# Altium schematic symbol library Microchip Power Management Switching Regulator.SchLib: 304 symbols (part 6 of 8)
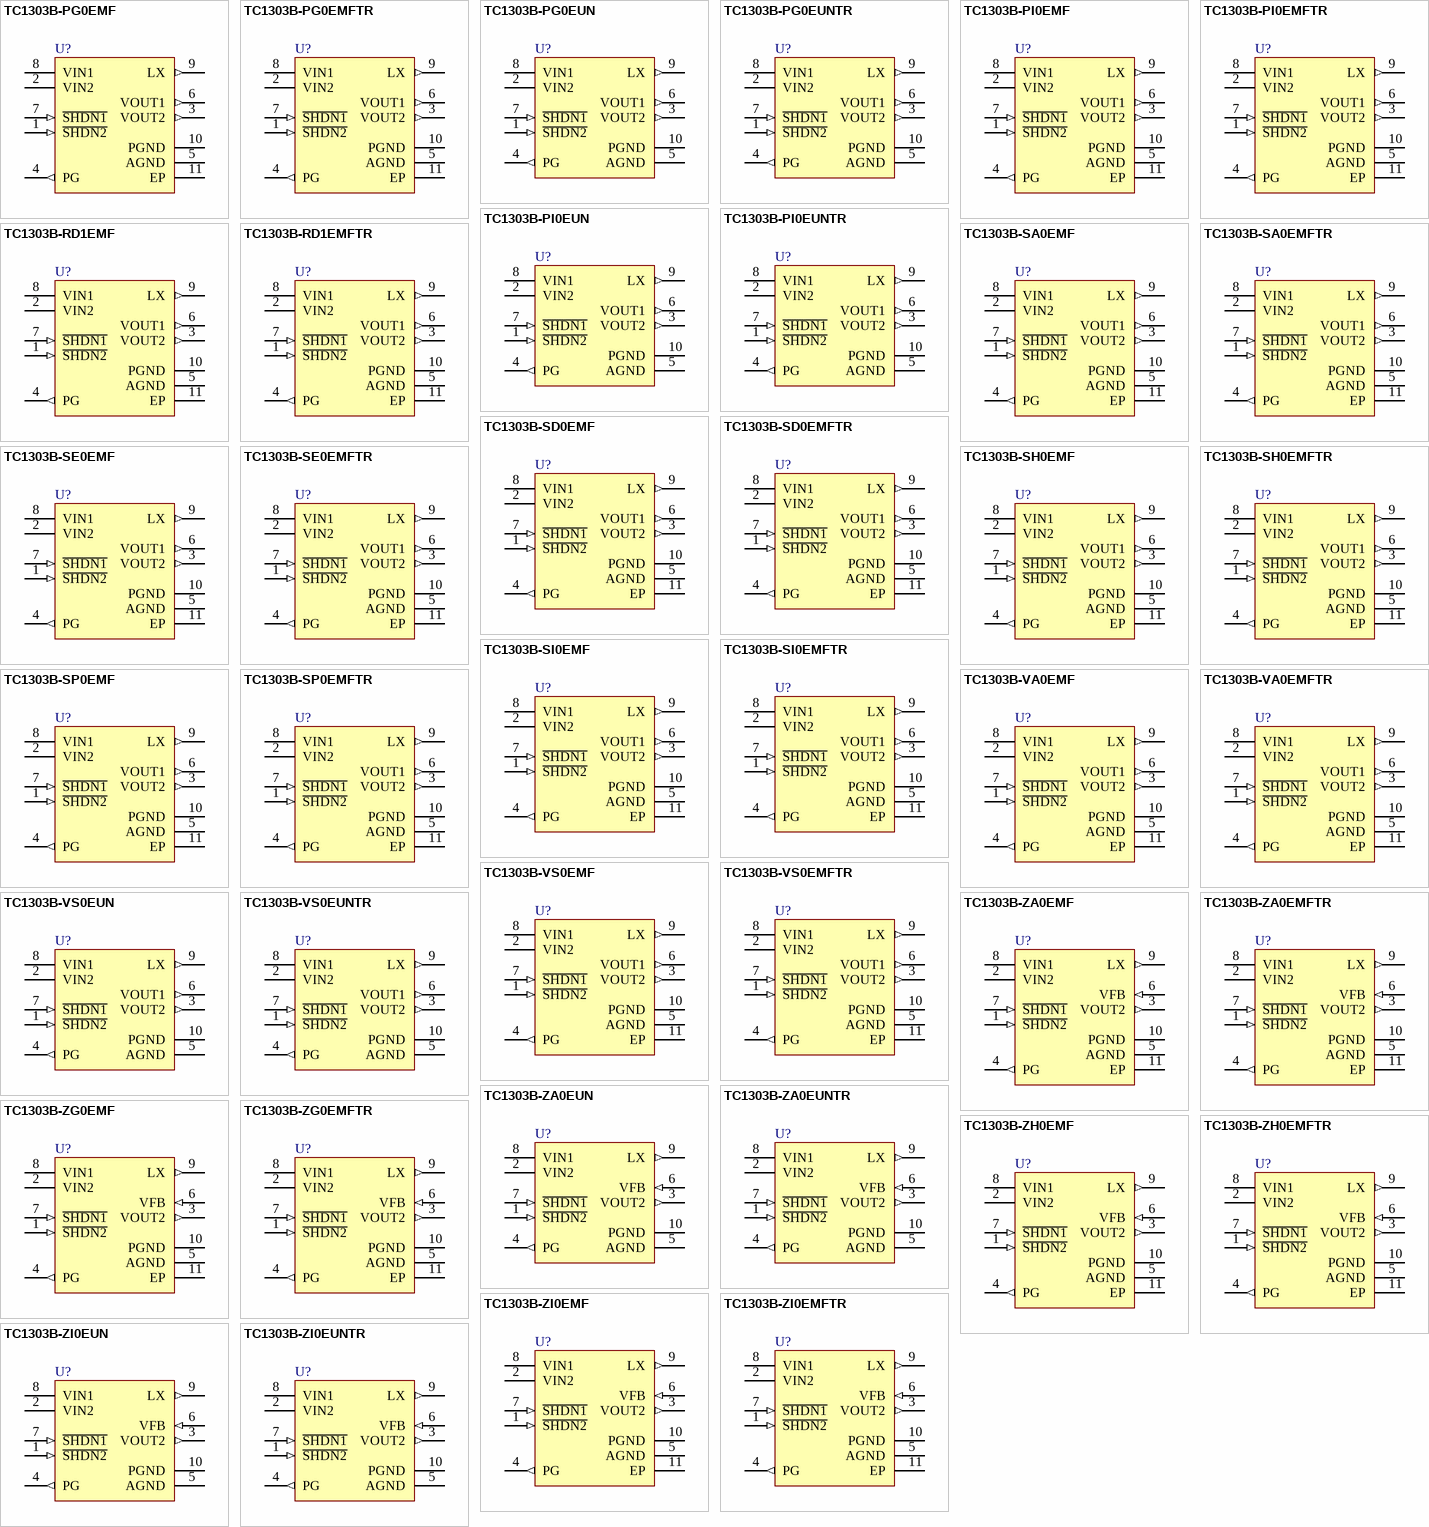
[diagram p12: symbols TC1303B-PG0EMF to TC1303B-ZI0EUNTR]

## TC1303B-VS0EMFTR
designator U?
500mA Synchronous Buck Regulator + 300mA LDO with Power-Good Output, 1.2V, 1.5V, 10-Pin DFN, Industrial Temperature, Tape and Reel; Manufacturer: Microchip; PartNumber: TC1303B-VS0EMFTR; DatasheetVersion: revB, Jul-2005; PackageVersion: revBB, Aug-2009; PackageReference: DFN-MF10; PackageDescription: 10-Lead Plastic Dual Flat, No Lead Package (MF) - 3x3x0.9mm Body [DFN]; Supplier 1: Digi-Key; Supplier Part Number 1: TC1303B-VS0EMFTR-ND; Mounting Technology: Surface Mount; ComponentLink1Description: Manufacturer URL; ComponentLink1URL: http://www.microchip.com/; ComponentLink2Description: Datasheet; ComponentLink2URL: http://ww1.microchip.com/downloads/en/DeviceDoc/21949b.pdf; ComponentLink3Description: Package Specification; ComponentLink3URL: http://www.microchip.com/stellent/groups/techpub_sg/documents/packagingspec/en012702.pdf
footprint DFN-MF10 (SON, 10-Leads, Body 3x3mm, Pitch 0.5mm, Microchip Recommended)
pins: 1 ~{SHDN2} (in), 2 VIN2 (power), 3 VOUT2 (out), 4 PG (out), 5 AGND (power), 6 VOUT1 (out), 7 ~{SHDN1} (in), 8 VIN1 (power), 9 LX (out), 10 PGND (power), 11 EP (power)

## TC1303B-VS0EUN
designator U?
500mA Synchronous Buck Regulator + 300mA LDO with Power-Good Output, 1.2V, 1.5V, 10-Pin MSOP, Industrial Temperature; Manufacturer: Microchip; PartNumber: TC1303B-VS0EUN; DatasheetVersion: revB, Jul-2005; PackageVersion: revBB, Aug-2009; PackageReference: MSOP-UN10; PackageDescription: 10-Lead Plastic Micro Small Outline Package (UN) [MSOP]; Supplier 1: Digi-Key; Supplier Part Number 1: TC1303B-VS0EUN-ND; Mounting Technology: Surface Mount; ComponentLink1Description: Manufacturer URL; ComponentLink1URL: http://www.microchip.com/; ComponentLink2Description: Datasheet; ComponentLink2URL: http://ww1.microchip.com/downloads/en/DeviceDoc/21949b.pdf; ComponentLink3Description: Package Specification; ComponentLink3URL: http://www.microchip.com/stellent/groups/techpub_sg/documents/packagingspec/en012702.pdf
footprint MSOP-UN10_N (TSSOP, 10-Leads, Body 3x3mm, Pitch 0.5mm, IPC Medium Density)
footprint MSOP-UN10_L (TSSOP, 10-Leads, Body 3x3mm, Pitch 0.5mm, IPC High Density)
footprint MSOP-UN10_M (TSSOP, 10-Leads, Body 3x3mm, Pitch 0.5mm, IPC Low Density)
pins: 1 ~{SHDN2} (in), 2 VIN2 (power), 3 VOUT2 (out), 4 PG (out), 5 AGND (power), 6 VOUT1 (out), 7 ~{SHDN1} (in), 8 VIN1 (power), 9 LX (out), 10 PGND (power)

## TC1303B-VS0EUNTR
designator U?
500mA Synchronous Buck Regulator + 300mA LDO with Power-Good Output, 1.2V, 1.5V, 10-Pin MSOP, Industrial Temperature, Tape and Reel; Manufacturer: Microchip; PartNumber: TC1303B-VS0EUNTR; DatasheetVersion: revB, Jul-2005; PackageVersion: revBB, Aug-2009; PackageReference: MSOP-UN10; PackageDescription: 10-Lead Plastic Micro Small Outline Package (UN) [MSOP]; Supplier 1: Digi-Key; Supplier Part Number 1: TC1303B-VS0EUNTR-ND; Mounting Technology: Surface Mount; ComponentLink1Description: Manufacturer URL; ComponentLink1URL: http://www.microchip.com/; ComponentLink2Description: Datasheet; ComponentLink2URL: http://ww1.microchip.com/downloads/en/DeviceDoc/21949b.pdf; ComponentLink3Description: Package Specification; ComponentLink3URL: http://www.microchip.com/stellent/groups/techpub_sg/documents/packagingspec/en012702.pdf
footprint MSOP-UN10_N (TSSOP, 10-Leads, Body 3x3mm, Pitch 0.5mm, IPC Medium Density)
footprint MSOP-UN10_L (TSSOP, 10-Leads, Body 3x3mm, Pitch 0.5mm, IPC High Density)
footprint MSOP-UN10_M (TSSOP, 10-Leads, Body 3x3mm, Pitch 0.5mm, IPC Low Density)
pins: 1 ~{SHDN2} (in), 2 VIN2 (power), 3 VOUT2 (out), 4 PG (out), 5 AGND (power), 6 VOUT1 (out), 7 ~{SHDN1} (in), 8 VIN1 (power), 9 LX (out), 10 PGND (power)

## TC1303B-ZA0EMF
designator U?
500mA Synchronous Buck Regulator + 300mA LDO with Power-Good Output, Adjustable, 3.3V, 10-Pin DFN, Industrial Temperature; Manufacturer: Microchip; PartNumber: TC1303B-ZA0EMF; DatasheetVersion: revB, Jul-2005; PackageVersion: revBB, Aug-2009; PackageReference: DFN-MF10; PackageDescription: 10-Lead Plastic Dual Flat, No Lead Package (MF) - 3x3x0.9mm Body [DFN]; Supplier 1: Digi-Key; Supplier Part Number 1: TC1303B-ZA0EMF-ND; Mounting Technology: Surface Mount; ComponentLink1Description: Manufacturer URL; ComponentLink1URL: http://www.microchip.com/; ComponentLink2Description: Datasheet; ComponentLink2URL: http://ww1.microchip.com/downloads/en/DeviceDoc/21949b.pdf; ComponentLink3Description: Package Specification; ComponentLink3URL: http://www.microchip.com/stellent/groups/techpub_sg/documents/packagingspec/en012702.pdf
footprint DFN-MF10 (SON, 10-Leads, Body 3x3mm, Pitch 0.5mm, Microchip Recommended)
pins: 1 ~{SHDN2} (in), 2 VIN2 (power), 3 VOUT2 (out), 4 PG (out), 5 AGND (power), 6 VFB (in), 7 ~{SHDN1} (in), 8 VIN1 (power), 9 LX (out), 10 PGND (power), 11 EP (power)

## TC1303B-ZA0EMFTR
designator U?
500mA Synchronous Buck Regulator + 300mA LDO with Power-Good Output, Adjustable, 3.3V, 10-Pin DFN, Industrial Temperature, Tape and Reel; Manufacturer: Microchip; PartNumber: TC1303B-ZA0EMFTR; DatasheetVersion: revB, Jul-2005; PackageVersion: revBB, Aug-2009; PackageReference: DFN-MF10; PackageDescription: 10-Lead Plastic Dual Flat, No Lead Package (MF) - 3x3x0.9mm Body [DFN]; Supplier 1: Digi-Key; Supplier Part Number 1: TC1303B-ZA0EMFTR-ND; Mounting Technology: Surface Mount; ComponentLink1Description: Manufacturer URL; ComponentLink1URL: http://www.microchip.com/; ComponentLink2Description: Datasheet; ComponentLink2URL: http://ww1.microchip.com/downloads/en/DeviceDoc/21949b.pdf; ComponentLink3Description: Package Specification; ComponentLink3URL: http://www.microchip.com/stellent/groups/techpub_sg/documents/packagingspec/en012702.pdf
footprint DFN-MF10 (SON, 10-Leads, Body 3x3mm, Pitch 0.5mm, Microchip Recommended)
pins: 1 ~{SHDN2} (in), 2 VIN2 (power), 3 VOUT2 (out), 4 PG (out), 5 AGND (power), 6 VFB (in), 7 ~{SHDN1} (in), 8 VIN1 (power), 9 LX (out), 10 PGND (power), 11 EP (power)

## TC1303B-ZA0EUN
designator U?
500mA Synchronous Buck Regulator + 300mA LDO with Power-Good Output, Adjustable, 3.3V, 10-Pin MSOP, Industrial Temperature; Manufacturer: Microchip; PartNumber: TC1303B-ZA0EUN; DatasheetVersion: revB, Jul-2005; PackageVersion: revBB, Aug-2009; PackageReference: MSOP-UN10; PackageDescription: 10-Lead Plastic Micro Small Outline Package (UN) [MSOP]; Supplier 1: Digi-Key; Supplier Part Number 1: TC1303B-ZA0EUN-ND; Mounting Technology: Surface Mount; ComponentLink1Description: Manufacturer URL; ComponentLink1URL: http://www.microchip.com/; ComponentLink2Description: Datasheet; ComponentLink2URL: http://ww1.microchip.com/downloads/en/DeviceDoc/21949b.pdf; ComponentLink3Description: Package Specification; ComponentLink3URL: http://www.microchip.com/stellent/groups/techpub_sg/documents/packagingspec/en012702.pdf
footprint MSOP-UN10_N (TSSOP, 10-Leads, Body 3x3mm, Pitch 0.5mm, IPC Medium Density)
footprint MSOP-UN10_L (TSSOP, 10-Leads, Body 3x3mm, Pitch 0.5mm, IPC High Density)
footprint MSOP-UN10_M (TSSOP, 10-Leads, Body 3x3mm, Pitch 0.5mm, IPC Low Density)
pins: 1 ~{SHDN2} (in), 2 VIN2 (power), 3 VOUT2 (out), 4 PG (out), 5 AGND (power), 6 VFB (in), 7 ~{SHDN1} (in), 8 VIN1 (power), 9 LX (out), 10 PGND (power)

## TC1303B-ZA0EUNTR
designator U?
500mA Synchronous Buck Regulator + 300mA LDO with Power-Good Output, Adjustable, 3.3V, 10-Pin MSOP, Industrial Temperature, Tape and Reel; Manufacturer: Microchip; PartNumber: TC1303B-ZA0EUNTR; DatasheetVersion: revB, Jul-2005; PackageVersion: revBB, Aug-2009; PackageReference: MSOP-UN10; PackageDescription: 10-Lead Plastic Micro Small Outline Package (UN) [MSOP]; Supplier 1: Digi-Key; Supplier Part Number 1: TC1303B-ZA0EUNTR-ND; Mounting Technology: Surface Mount; ComponentLink1Description: Manufacturer URL; ComponentLink1URL: http://www.microchip.com/; ComponentLink2Description: Datasheet; ComponentLink2URL: http://ww1.microchip.com/downloads/en/DeviceDoc/21949b.pdf; ComponentLink3Description: Package Specification; ComponentLink3URL: http://www.microchip.com/stellent/groups/techpub_sg/documents/packagingspec/en012702.pdf
footprint MSOP-UN10_N (TSSOP, 10-Leads, Body 3x3mm, Pitch 0.5mm, IPC Medium Density)
footprint MSOP-UN10_L (TSSOP, 10-Leads, Body 3x3mm, Pitch 0.5mm, IPC High Density)
footprint MSOP-UN10_M (TSSOP, 10-Leads, Body 3x3mm, Pitch 0.5mm, IPC Low Density)
pins: 1 ~{SHDN2} (in), 2 VIN2 (power), 3 VOUT2 (out), 4 PG (out), 5 AGND (power), 6 VFB (in), 7 ~{SHDN1} (in), 8 VIN1 (power), 9 LX (out), 10 PGND (power)

## TC1303B-ZG0EMF
designator U?
500mA Synchronous Buck Regulator + 300mA LDO with Power-Good Output, Adjustable, 2.7V, 10-Pin DFN, Industrial Temperature; Manufacturer: Microchip; PartNumber: TC1303B-ZG0EMF; DatasheetVersion: revB, Jul-2005; PackageVersion: revBB, Aug-2009; PackageReference: DFN-MF10; PackageDescription: 10-Lead Plastic Dual Flat, No Lead Package (MF) - 3x3x0.9mm Body [DFN]; Supplier 1: Digi-Key; Supplier Part Number 1: TC1303B-ZG0EMF-ND; Mounting Technology: Surface Mount; ComponentLink1Description: Manufacturer URL; ComponentLink1URL: http://www.microchip.com/; ComponentLink2Description: Datasheet; ComponentLink2URL: http://ww1.microchip.com/downloads/en/DeviceDoc/21949b.pdf; ComponentLink3Description: Package Specification; ComponentLink3URL: http://www.microchip.com/stellent/groups/techpub_sg/documents/packagingspec/en012702.pdf
footprint DFN-MF10 (SON, 10-Leads, Body 3x3mm, Pitch 0.5mm, Microchip Recommended)
pins: 1 ~{SHDN2} (in), 2 VIN2 (power), 3 VOUT2 (out), 4 PG (out), 5 AGND (power), 6 VFB (in), 7 ~{SHDN1} (in), 8 VIN1 (power), 9 LX (out), 10 PGND (power), 11 EP (power)

## TC1303B-ZG0EMFTR
designator U?
500mA Synchronous Buck Regulator + 300mA LDO with Power-Good Output, Adjustable, 2.7V, 10-Pin DFN, Industrial Temperature, Tape and Reel; Manufacturer: Microchip; PartNumber: TC1303B-ZG0EMFTR; DatasheetVersion: revB, Jul-2005; PackageVersion: revBB, Aug-2009; PackageReference: DFN-MF10; PackageDescription: 10-Lead Plastic Dual Flat, No Lead Package (MF) - 3x3x0.9mm Body [DFN]; Supplier 1: Digi-Key; Supplier Part Number 1: TC1303B-ZG0EMFTR-ND; Mounting Technology: Surface Mount; ComponentLink1Description: Manufacturer URL; ComponentLink1URL: http://www.microchip.com/; ComponentLink2Description: Datasheet; ComponentLink2URL: http://ww1.microchip.com/downloads/en/DeviceDoc/21949b.pdf; ComponentLink3Description: Package Specification; ComponentLink3URL: http://www.microchip.com/stellent/groups/techpub_sg/documents/packagingspec/en012702.pdf
footprint DFN-MF10 (SON, 10-Leads, Body 3x3mm, Pitch 0.5mm, Microchip Recommended)
pins: 1 ~{SHDN2} (in), 2 VIN2 (power), 3 VOUT2 (out), 4 PG (out), 5 AGND (power), 6 VFB (in), 7 ~{SHDN1} (in), 8 VIN1 (power), 9 LX (out), 10 PGND (power), 11 EP (power)

## TC1303B-ZH0EMF
designator U?
500mA Synchronous Buck Regulator + 300mA LDO with Power-Good Output, Adjustable, 2.6V, 10-Pin DFN, Industrial Temperature; Manufacturer: Microchip; PartNumber: TC1303B-ZH0EMF; DatasheetVersion: revB, Jul-2005; PackageVersion: revBB, Aug-2009; PackageReference: DFN-MF10; PackageDescription: 10-Lead Plastic Dual Flat, No Lead Package (MF) - 3x3x0.9mm Body [DFN]; Supplier 1: Digi-Key; Supplier Part Number 1: TC1303B-ZH0EMF-ND; Mounting Technology: Surface Mount; ComponentLink1Description: Manufacturer URL; ComponentLink1URL: http://www.microchip.com/; ComponentLink2Description: Datasheet; ComponentLink2URL: http://ww1.microchip.com/downloads/en/DeviceDoc/21949b.pdf; ComponentLink3Description: Package Specification; ComponentLink3URL: http://www.microchip.com/stellent/groups/techpub_sg/documents/packagingspec/en012702.pdf
footprint DFN-MF10 (SON, 10-Leads, Body 3x3mm, Pitch 0.5mm, Microchip Recommended)
pins: 1 ~{SHDN2} (in), 2 VIN2 (power), 3 VOUT2 (out), 4 PG (out), 5 AGND (power), 6 VFB (in), 7 ~{SHDN1} (in), 8 VIN1 (power), 9 LX (out), 10 PGND (power), 11 EP (power)

## TC1303B-ZH0EMFTR
designator U?
500mA Synchronous Buck Regulator + 300mA LDO with Power-Good Output, Adjustable, 2.6V, 10-Pin DFN, Industrial Temperature, Tape and Reel; Manufacturer: Microchip; PartNumber: TC1303B-ZH0EMFTR; DatasheetVersion: revB, Jul-2005; PackageVersion: revBB, Aug-2009; PackageReference: DFN-MF10; PackageDescription: 10-Lead Plastic Dual Flat, No Lead Package (MF) - 3x3x0.9mm Body [DFN]; Supplier 1: Digi-Key; Supplier Part Number 1: TC1303B-ZH0EMFTR-ND; Mounting Technology: Surface Mount; ComponentLink1Description: Manufacturer URL; ComponentLink1URL: http://www.microchip.com/; ComponentLink2Description: Datasheet; ComponentLink2URL: http://ww1.microchip.com/downloads/en/DeviceDoc/21949b.pdf; ComponentLink3Description: Package Specification; ComponentLink3URL: http://www.microchip.com/stellent/groups/techpub_sg/documents/packagingspec/en012702.pdf
footprint DFN-MF10 (SON, 10-Leads, Body 3x3mm, Pitch 0.5mm, Microchip Recommended)
pins: 1 ~{SHDN2} (in), 2 VIN2 (power), 3 VOUT2 (out), 4 PG (out), 5 AGND (power), 6 VFB (in), 7 ~{SHDN1} (in), 8 VIN1 (power), 9 LX (out), 10 PGND (power), 11 EP (power)

## TC1303B-ZI0EMF
designator U?
500mA Synchronous Buck Regulator + 300mA LDO with Power-Good Output, Adjustable, 2.5V, 10-Pin DFN, Industrial Temperature; Manufacturer: Microchip; PartNumber: TC1303B-ZI0EMF; DatasheetVersion: revB, Jul-2005; PackageVersion: revBB, Aug-2009; PackageReference: DFN-MF10; PackageDescription: 10-Lead Plastic Dual Flat, No Lead Package (MF) - 3x3x0.9mm Body [DFN]; Supplier 1: Digi-Key; Supplier Part Number 1: TC1303B-ZI0EMF-ND; Mounting Technology: Surface Mount; ComponentLink1Description: Manufacturer URL; ComponentLink1URL: http://www.microchip.com/; ComponentLink2Description: Datasheet; ComponentLink2URL: http://ww1.microchip.com/downloads/en/DeviceDoc/21949b.pdf; ComponentLink3Description: Package Specification; ComponentLink3URL: http://www.microchip.com/stellent/groups/techpub_sg/documents/packagingspec/en012702.pdf
footprint DFN-MF10 (SON, 10-Leads, Body 3x3mm, Pitch 0.5mm, Microchip Recommended)
pins: 1 ~{SHDN2} (in), 2 VIN2 (power), 3 VOUT2 (out), 4 PG (out), 5 AGND (power), 6 VFB (in), 7 ~{SHDN1} (in), 8 VIN1 (power), 9 LX (out), 10 PGND (power), 11 EP (power)

## TC1303B-ZI0EMFTR
designator U?
500mA Synchronous Buck Regulator + 300mA LDO with Power-Good Output, Adjustable, 2.5V, 10-Pin DFN, Industrial Temperature, Tape and Reel; Manufacturer: Microchip; PartNumber: TC1303B-ZI0EMFTR; DatasheetVersion: revB, Jul-2005; PackageVersion: revBB, Aug-2009; PackageReference: DFN-MF10; PackageDescription: 10-Lead Plastic Dual Flat, No Lead Package (MF) - 3x3x0.9mm Body [DFN]; Supplier 1: Digi-Key; Supplier Part Number 1: TC1303B-ZI0EMFTR-ND; Mounting Technology: Surface Mount; ComponentLink1Description: Manufacturer URL; ComponentLink1URL: http://www.microchip.com/; ComponentLink2Description: Datasheet; ComponentLink2URL: http://ww1.microchip.com/downloads/en/DeviceDoc/21949b.pdf; ComponentLink3Description: Package Specification; ComponentLink3URL: http://www.microchip.com/stellent/groups/techpub_sg/documents/packagingspec/en012702.pdf
footprint DFN-MF10 (SON, 10-Leads, Body 3x3mm, Pitch 0.5mm, Microchip Recommended)
pins: 1 ~{SHDN2} (in), 2 VIN2 (power), 3 VOUT2 (out), 4 PG (out), 5 AGND (power), 6 VFB (in), 7 ~{SHDN1} (in), 8 VIN1 (power), 9 LX (out), 10 PGND (power), 11 EP (power)

## TC1303B-ZI0EUN
designator U?
500mA Synchronous Buck Regulator + 300mA LDO with Power-Good Output, Adjustable, 2.5V, 10-Pin MSOP, Industrial Temperature; Manufacturer: Microchip; PartNumber: TC1303B-ZI0EUN; DatasheetVersion: revB, Jul-2005; PackageVersion: revBB, Aug-2009; PackageReference: MSOP-UN10; PackageDescription: 10-Lead Plastic Micro Small Outline Package (UN) [MSOP]; Supplier 1: Digi-Key; Supplier Part Number 1: TC1303B-ZI0EUN-ND; Mounting Technology: Surface Mount; ComponentLink1Description: Manufacturer URL; ComponentLink1URL: http://www.microchip.com/; ComponentLink2Description: Datasheet; ComponentLink2URL: http://ww1.microchip.com/downloads/en/DeviceDoc/21949b.pdf; ComponentLink3Description: Package Specification; ComponentLink3URL: http://www.microchip.com/stellent/groups/techpub_sg/documents/packagingspec/en012702.pdf
footprint MSOP-UN10_N (TSSOP, 10-Leads, Body 3x3mm, Pitch 0.5mm, IPC Medium Density)
footprint MSOP-UN10_L (TSSOP, 10-Leads, Body 3x3mm, Pitch 0.5mm, IPC High Density)
footprint MSOP-UN10_M (TSSOP, 10-Leads, Body 3x3mm, Pitch 0.5mm, IPC Low Density)
pins: 1 ~{SHDN2} (in), 2 VIN2 (power), 3 VOUT2 (out), 4 PG (out), 5 AGND (power), 6 VFB (in), 7 ~{SHDN1} (in), 8 VIN1 (power), 9 LX (out), 10 PGND (power)

## TC1303B-ZI0EUNTR
designator U?
500mA Synchronous Buck Regulator + 300mA LDO with Power-Good Output, Adjustable, 2.5V, 10-Pin MSOP, Industrial Temperature, Tape and Reel; Manufacturer: Microchip; PartNumber: TC1303B-ZI0EUNTR; DatasheetVersion: revB, Jul-2005; PackageVersion: revBB, Aug-2009; PackageReference: MSOP-UN10; PackageDescription: 10-Lead Plastic Micro Small Outline Package (UN) [MSOP]; Supplier 1: Digi-Key; Supplier Part Number 1: TC1303B-ZI0EUNTR-ND; Mounting Technology: Surface Mount; ComponentLink1Description: Manufacturer URL; ComponentLink1URL: http://www.microchip.com/; ComponentLink2Description: Datasheet; ComponentLink2URL: http://ww1.microchip.com/downloads/en/DeviceDoc/21949b.pdf; ComponentLink3Description: Package Specification; ComponentLink3URL: http://www.microchip.com/stellent/groups/techpub_sg/documents/packagingspec/en012702.pdf
footprint MSOP-UN10_N (TSSOP, 10-Leads, Body 3x3mm, Pitch 0.5mm, IPC Medium Density)
footprint MSOP-UN10_L (TSSOP, 10-Leads, Body 3x3mm, Pitch 0.5mm, IPC High Density)
footprint MSOP-UN10_M (TSSOP, 10-Leads, Body 3x3mm, Pitch 0.5mm, IPC Low Density)
pins: 1 ~{SHDN2} (in), 2 VIN2 (power), 3 VOUT2 (out), 4 PG (out), 5 AGND (power), 6 VFB (in), 7 ~{SHDN1} (in), 8 VIN1 (power), 9 LX (out), 10 PGND (power)

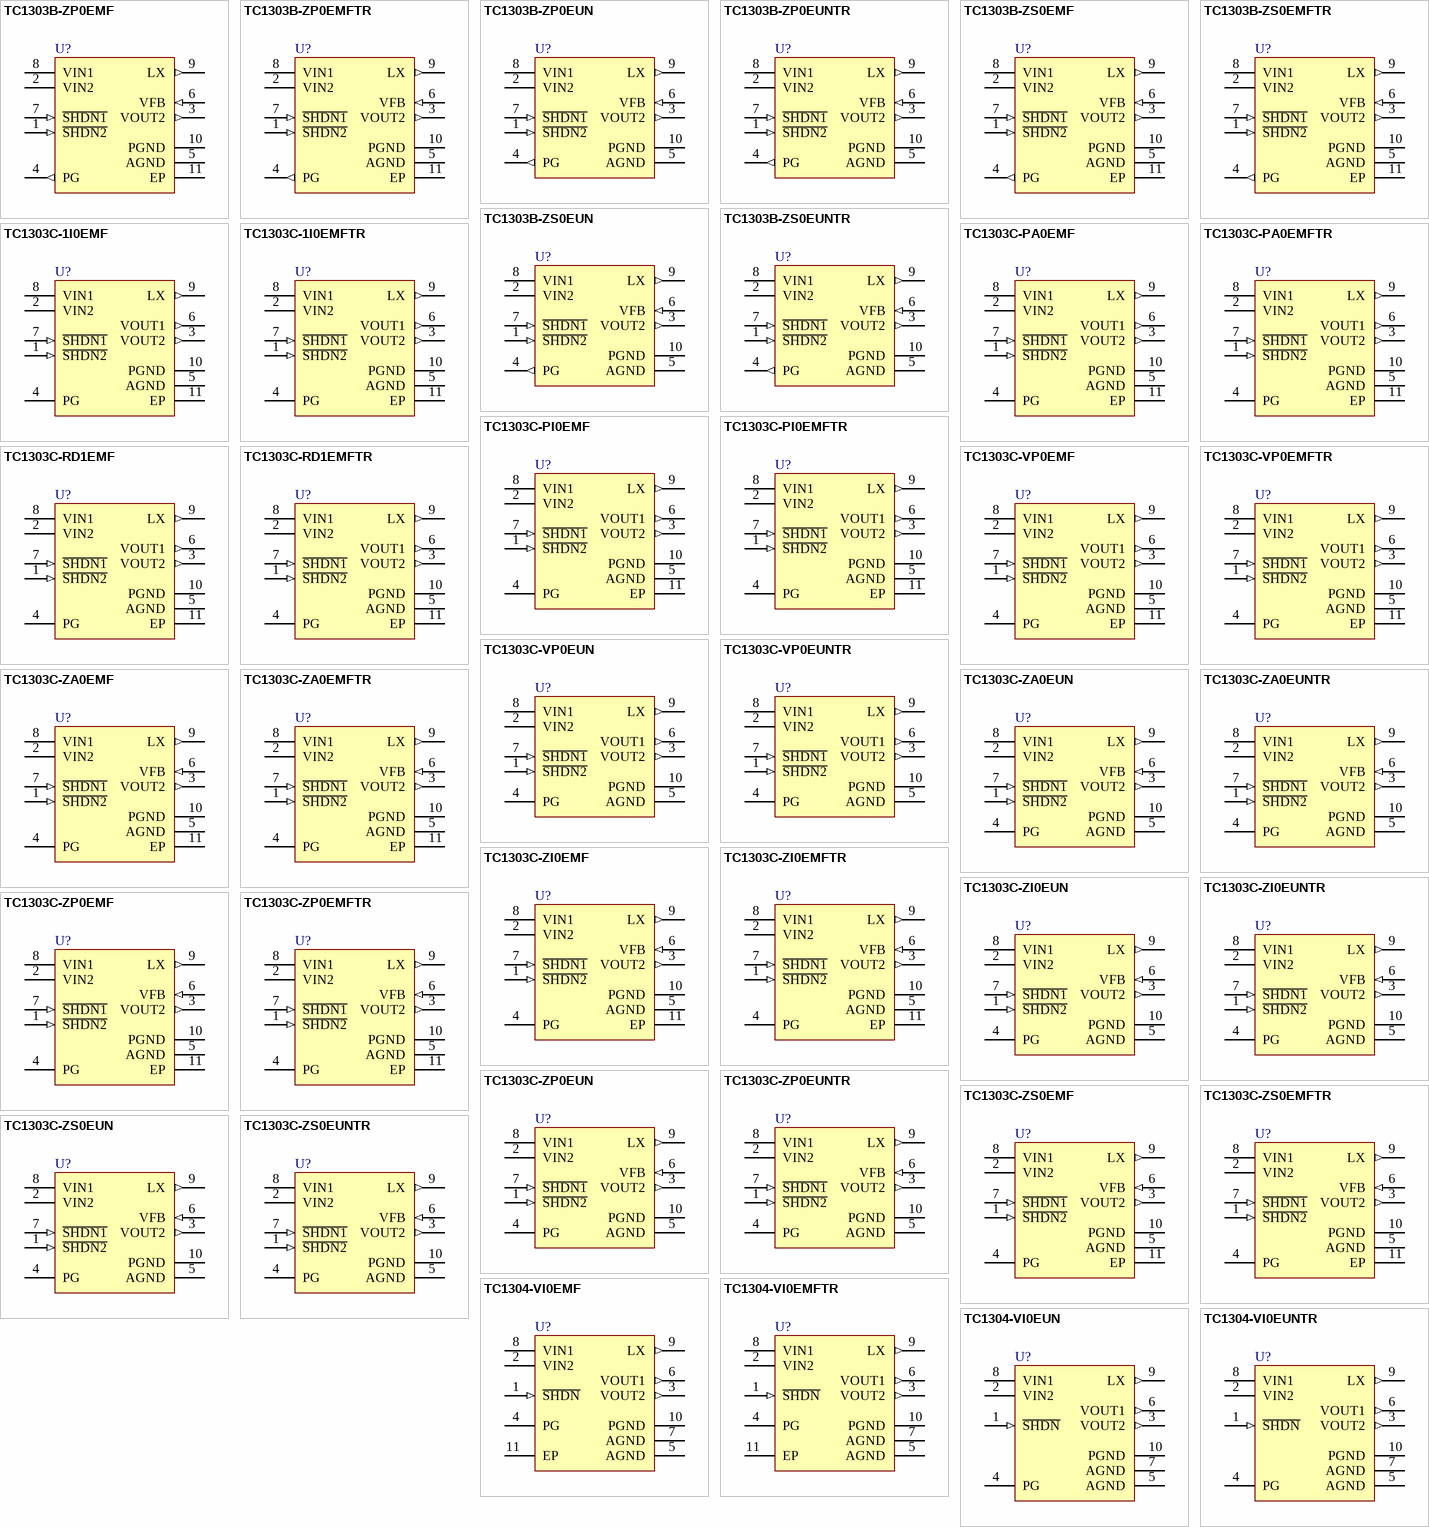
[diagram p5: symbols TC1303B-ZP0EMF to TC1304-VI0EUNTR]

## TC1303B-ZP0EMF
designator U?
500mA Synchronous Buck Regulator + 300mA LDO with Power-Good Output, Adjustable, 1.8V, 10-Pin DFN, Industrial Temperature; Manufacturer: Microchip; PartNumber: TC1303B-ZP0EMF; DatasheetVersion: revB, Jul-2005; PackageVersion: revBB, Aug-2009; PackageReference: DFN-MF10; PackageDescription: 10-Lead Plastic Dual Flat, No Lead Package (MF) - 3x3x0.9mm Body [DFN]; Supplier 1: Digi-Key; Supplier Part Number 1: TC1303B-ZP0EMF-ND; Mounting Technology: Surface Mount; ComponentLink1Description: Manufacturer URL; ComponentLink1URL: http://www.microchip.com/; ComponentLink2Description: Datasheet; ComponentLink2URL: http://ww1.microchip.com/downloads/en/DeviceDoc/21949b.pdf; ComponentLink3Description: Package Specification; ComponentLink3URL: http://www.microchip.com/stellent/groups/techpub_sg/documents/packagingspec/en012702.pdf
footprint DFN-MF10 (SON, 10-Leads, Body 3x3mm, Pitch 0.5mm, Microchip Recommended)
pins: 1 ~{SHDN2} (in), 2 VIN2 (power), 3 VOUT2 (out), 4 PG (out), 5 AGND (power), 6 VFB (in), 7 ~{SHDN1} (in), 8 VIN1 (power), 9 LX (out), 10 PGND (power), 11 EP (power)

## TC1303B-ZP0EMFTR
designator U?
500mA Synchronous Buck Regulator + 300mA LDO with Power-Good Output, Adjustable, 1.8V, 10-Pin DFN, Industrial Temperature, Tape and Reel; Manufacturer: Microchip; PartNumber: TC1303B-ZP0EMFTR; DatasheetVersion: revB, Jul-2005; PackageVersion: revBB, Aug-2009; PackageReference: DFN-MF10; PackageDescription: 10-Lead Plastic Dual Flat, No Lead Package (MF) - 3x3x0.9mm Body [DFN]; Supplier 1: Digi-Key; Supplier Part Number 1: TC1303B-ZP0EMFTR-ND; Mounting Technology: Surface Mount; ComponentLink1Description: Manufacturer URL; ComponentLink1URL: http://www.microchip.com/; ComponentLink2Description: Datasheet; ComponentLink2URL: http://ww1.microchip.com/downloads/en/DeviceDoc/21949b.pdf; ComponentLink3Description: Package Specification; ComponentLink3URL: http://www.microchip.com/stellent/groups/techpub_sg/documents/packagingspec/en012702.pdf
footprint DFN-MF10 (SON, 10-Leads, Body 3x3mm, Pitch 0.5mm, Microchip Recommended)
pins: 1 ~{SHDN2} (in), 2 VIN2 (power), 3 VOUT2 (out), 4 PG (out), 5 AGND (power), 6 VFB (in), 7 ~{SHDN1} (in), 8 VIN1 (power), 9 LX (out), 10 PGND (power), 11 EP (power)

## TC1303B-ZP0EUN
designator U?
500mA Synchronous Buck Regulator + 300mA LDO with Power-Good Output, Adjustable, 1.8V, 10-Pin MSOP, Industrial Temperature; Manufacturer: Microchip; PartNumber: TC1303B-ZP0EUN; DatasheetVersion: revB, Jul-2005; PackageVersion: revBB, Aug-2009; PackageReference: MSOP-UN10; PackageDescription: 10-Lead Plastic Micro Small Outline Package (UN) [MSOP]; Supplier 1: Digi-Key; Supplier Part Number 1: TC1303B-ZP0EUN-ND; Mounting Technology: Surface Mount; ComponentLink1Description: Manufacturer URL; ComponentLink1URL: http://www.microchip.com/; ComponentLink2Description: Datasheet; ComponentLink2URL: http://ww1.microchip.com/downloads/en/DeviceDoc/21949b.pdf; ComponentLink3Description: Package Specification; ComponentLink3URL: http://www.microchip.com/stellent/groups/techpub_sg/documents/packagingspec/en012702.pdf
footprint MSOP-UN10_N (TSSOP, 10-Leads, Body 3x3mm, Pitch 0.5mm, IPC Medium Density)
footprint MSOP-UN10_L (TSSOP, 10-Leads, Body 3x3mm, Pitch 0.5mm, IPC High Density)
footprint MSOP-UN10_M (TSSOP, 10-Leads, Body 3x3mm, Pitch 0.5mm, IPC Low Density)
pins: 1 ~{SHDN2} (in), 2 VIN2 (power), 3 VOUT2 (out), 4 PG (out), 5 AGND (power), 6 VFB (in), 7 ~{SHDN1} (in), 8 VIN1 (power), 9 LX (out), 10 PGND (power)

## TC1303B-ZP0EUNTR
designator U?
500mA Synchronous Buck Regulator + 300mA LDO with Power-Good Output, Adjustable, 1.8V, 10-Pin MSOP, Industrial Temperature, Tape and Reel; Manufacturer: Microchip; PartNumber: TC1303B-ZP0EUNTR; DatasheetVersion: revB, Jul-2005; PackageVersion: revBB, Aug-2009; PackageReference: MSOP-UN10; PackageDescription: 10-Lead Plastic Micro Small Outline Package (UN) [MSOP]; Supplier 1: Digi-Key; Supplier Part Number 1: TC1303B-ZP0EUNTR-ND; Mounting Technology: Surface Mount; ComponentLink1Description: Manufacturer URL; ComponentLink1URL: http://www.microchip.com/; ComponentLink2Description: Datasheet; ComponentLink2URL: http://ww1.microchip.com/downloads/en/DeviceDoc/21949b.pdf; ComponentLink3Description: Package Specification; ComponentLink3URL: http://www.microchip.com/stellent/groups/techpub_sg/documents/packagingspec/en012702.pdf
footprint MSOP-UN10_N (TSSOP, 10-Leads, Body 3x3mm, Pitch 0.5mm, IPC Medium Density)
footprint MSOP-UN10_L (TSSOP, 10-Leads, Body 3x3mm, Pitch 0.5mm, IPC High Density)
footprint MSOP-UN10_M (TSSOP, 10-Leads, Body 3x3mm, Pitch 0.5mm, IPC Low Density)
pins: 1 ~{SHDN2} (in), 2 VIN2 (power), 3 VOUT2 (out), 4 PG (out), 5 AGND (power), 6 VFB (in), 7 ~{SHDN1} (in), 8 VIN1 (power), 9 LX (out), 10 PGND (power)

## TC1303B-ZS0EMF
designator U?
500mA Synchronous Buck Regulator + 300mA LDO with Power-Good Output, Adjustable, 1.5V, 10-Pin DFN, Industrial Temperature; Manufacturer: Microchip; PartNumber: TC1303B-ZS0EMF; DatasheetVersion: revB, Jul-2005; PackageVersion: revBB, Aug-2009; PackageReference: DFN-MF10; PackageDescription: 10-Lead Plastic Dual Flat, No Lead Package (MF) - 3x3x0.9mm Body [DFN]; Supplier 1: Digi-Key; Supplier Part Number 1: TC1303B-ZS0EMF-ND; Mounting Technology: Surface Mount; ComponentLink1Description: Manufacturer URL; ComponentLink1URL: http://www.microchip.com/; ComponentLink2Description: Datasheet; ComponentLink2URL: http://ww1.microchip.com/downloads/en/DeviceDoc/21949b.pdf; ComponentLink3Description: Package Specification; ComponentLink3URL: http://www.microchip.com/stellent/groups/techpub_sg/documents/packagingspec/en012702.pdf
footprint DFN-MF10 (SON, 10-Leads, Body 3x3mm, Pitch 0.5mm, Microchip Recommended)
pins: 1 ~{SHDN2} (in), 2 VIN2 (power), 3 VOUT2 (out), 4 PG (out), 5 AGND (power), 6 VFB (in), 7 ~{SHDN1} (in), 8 VIN1 (power), 9 LX (out), 10 PGND (power), 11 EP (power)

## TC1303B-ZS0EMFTR
designator U?
500mA Synchronous Buck Regulator + 300mA LDO with Power-Good Output, Adjustable, 1.5V, 10-Pin DFN, Industrial Temperature, Tape and Reel; Manufacturer: Microchip; PartNumber: TC1303B-ZS0EMFTR; DatasheetVersion: revB, Jul-2005; PackageVersion: revBB, Aug-2009; PackageReference: DFN-MF10; PackageDescription: 10-Lead Plastic Dual Flat, No Lead Package (MF) - 3x3x0.9mm Body [DFN]; Supplier 1: Digi-Key; Supplier Part Number 1: TC1303B-ZS0EMFTR-ND; Mounting Technology: Surface Mount; ComponentLink1Description: Manufacturer URL; ComponentLink1URL: http://www.microchip.com/; ComponentLink2Description: Datasheet; ComponentLink2URL: http://ww1.microchip.com/downloads/en/DeviceDoc/21949b.pdf; ComponentLink3Description: Package Specification; ComponentLink3URL: http://www.microchip.com/stellent/groups/techpub_sg/documents/packagingspec/en012702.pdf
footprint DFN-MF10 (SON, 10-Leads, Body 3x3mm, Pitch 0.5mm, Microchip Recommended)
pins: 1 ~{SHDN2} (in), 2 VIN2 (power), 3 VOUT2 (out), 4 PG (out), 5 AGND (power), 6 VFB (in), 7 ~{SHDN1} (in), 8 VIN1 (power), 9 LX (out), 10 PGND (power), 11 EP (power)

## TC1303B-ZS0EUN
designator U?
500mA Synchronous Buck Regulator + 300mA LDO with Power-Good Output, Adjustable, 1.5V, 10-Pin MSOP, Industrial Temperature; Manufacturer: Microchip; PartNumber: TC1303B-ZS0EUN; DatasheetVersion: revB, Jul-2005; PackageVersion: revBB, Aug-2009; PackageReference: MSOP-UN10; PackageDescription: 10-Lead Plastic Micro Small Outline Package (UN) [MSOP]; Supplier 1: Digi-Key; Supplier Part Number 1: TC1303B-ZS0EUN-ND; Mounting Technology: Surface Mount; ComponentLink1Description: Manufacturer URL; ComponentLink1URL: http://www.microchip.com/; ComponentLink2Description: Datasheet; ComponentLink2URL: http://ww1.microchip.com/downloads/en/DeviceDoc/21949b.pdf; ComponentLink3Description: Package Specification; ComponentLink3URL: http://www.microchip.com/stellent/groups/techpub_sg/documents/packagingspec/en012702.pdf
footprint MSOP-UN10_N (TSSOP, 10-Leads, Body 3x3mm, Pitch 0.5mm, IPC Medium Density)
footprint MSOP-UN10_L (TSSOP, 10-Leads, Body 3x3mm, Pitch 0.5mm, IPC High Density)
footprint MSOP-UN10_M (TSSOP, 10-Leads, Body 3x3mm, Pitch 0.5mm, IPC Low Density)
pins: 1 ~{SHDN2} (in), 2 VIN2 (power), 3 VOUT2 (out), 4 PG (out), 5 AGND (power), 6 VFB (in), 7 ~{SHDN1} (in), 8 VIN1 (power), 9 LX (out), 10 PGND (power)

## TC1303B-ZS0EUNTR
designator U?
500mA Synchronous Buck Regulator + 300mA LDO with Power-Good Output, Adjustable, 1.5V, 10-Pin MSOP, Industrial Temperature, Tape and Reel; Manufacturer: Microchip; PartNumber: TC1303B-ZS0EUNTR; DatasheetVersion: revB, Jul-2005; PackageVersion: revBB, Aug-2009; PackageReference: MSOP-UN10; PackageDescription: 10-Lead Plastic Micro Small Outline Package (UN) [MSOP]; Supplier 1: Digi-Key; Supplier Part Number 1: TC1303B-ZS0EUNTR-ND; Mounting Technology: Surface Mount; ComponentLink1Description: Manufacturer URL; ComponentLink1URL: http://www.microchip.com/; ComponentLink2Description: Datasheet; ComponentLink2URL: http://ww1.microchip.com/downloads/en/DeviceDoc/21949b.pdf; ComponentLink3Description: Package Specification; ComponentLink3URL: http://www.microchip.com/stellent/groups/techpub_sg/documents/packagingspec/en012702.pdf
footprint MSOP-UN10_N (TSSOP, 10-Leads, Body 3x3mm, Pitch 0.5mm, IPC Medium Density)
footprint MSOP-UN10_L (TSSOP, 10-Leads, Body 3x3mm, Pitch 0.5mm, IPC High Density)
footprint MSOP-UN10_M (TSSOP, 10-Leads, Body 3x3mm, Pitch 0.5mm, IPC Low Density)
pins: 1 ~{SHDN2} (in), 2 VIN2 (power), 3 VOUT2 (out), 4 PG (out), 5 AGND (power), 6 VFB (in), 7 ~{SHDN1} (in), 8 VIN1 (power), 9 LX (out), 10 PGND (power)

## TC1303C-1I0EMF
designator U?
500mA Synchronous Buck Regulator + 300mA LDO with Power-Good Output, 1.375V, 2.5V, 10-Pin DFN, Industrial Temperature; Manufacturer: Microchip; PartNumber: TC1303C-1I0EMF; DatasheetVersion: revB, Jul-2005; PackageVersion: revBB, Aug-2009; PackageReference: DFN-MF10; PackageDescription: 10-Lead Plastic Dual Flat, No Lead Package (MF) - 3x3x0.9mm Body [DFN]; Supplier 1: Digi-Key; Supplier Part Number 1: TC1303C-1I0EMF-ND; Mounting Technology: Surface Mount; ComponentLink1Description: Manufacturer URL; ComponentLink1URL: http://www.microchip.com/; ComponentLink2Description: Datasheet; ComponentLink2URL: http://ww1.microchip.com/downloads/en/DeviceDoc/21949b.pdf; ComponentLink3Description: Package Specification; ComponentLink3URL: http://www.microchip.com/stellent/groups/techpub_sg/documents/packagingspec/en012702.pdf
footprint DFN-MF10 (SON, 10-Leads, Body 3x3mm, Pitch 0.5mm, Microchip Recommended)
pins: 1 ~{SHDN2} (in), 2 VIN2 (power), 3 VOUT2 (out), 4 PG (oc), 5 AGND (power), 6 VOUT1 (out), 7 ~{SHDN1} (in), 8 VIN1 (power), 9 LX (out), 10 PGND (power), 11 EP (power)

## TC1303C-1I0EMFTR
designator U?
500mA Synchronous Buck Regulator + 300mA LDO with Power-Good Output, 1.375V, 2.5V, 10-Pin DFN, Industrial Temperature, Tape and Reel; Manufacturer: Microchip; PartNumber: TC1303C-1I0EMFTR; DatasheetVersion: revB, Jul-2005; PackageVersion: revBB, Aug-2009; PackageReference: DFN-MF10; PackageDescription: 10-Lead Plastic Dual Flat, No Lead Package (MF) - 3x3x0.9mm Body [DFN]; Supplier 1: Digi-Key; Supplier Part Number 1: TC1303C-1I0EMFTR-ND; Mounting Technology: Surface Mount; ComponentLink1Description: Manufacturer URL; ComponentLink1URL: http://www.microchip.com/; ComponentLink2Description: Datasheet; ComponentLink2URL: http://ww1.microchip.com/downloads/en/DeviceDoc/21949b.pdf; ComponentLink3Description: Package Specification; ComponentLink3URL: http://www.microchip.com/stellent/groups/techpub_sg/documents/packagingspec/en012702.pdf
footprint DFN-MF10 (SON, 10-Leads, Body 3x3mm, Pitch 0.5mm, Microchip Recommended)
pins: 1 ~{SHDN2} (in), 2 VIN2 (power), 3 VOUT2 (out), 4 PG (oc), 5 AGND (power), 6 VOUT1 (out), 7 ~{SHDN1} (in), 8 VIN1 (power), 9 LX (out), 10 PGND (power), 11 EP (power)

## TC1303C-PA0EMF
designator U?
500mA Synchronous Buck Regulator + 300mA LDO with Power-Good Output, 1.8V, 3.3V, 10-Pin DFN, Industrial Temperature; Manufacturer: Microchip; PartNumber: TC1303C-PA0EMF; DatasheetVersion: revB, Jul-2005; PackageVersion: revBB, Aug-2009; PackageReference: DFN-MF10; PackageDescription: 10-Lead Plastic Dual Flat, No Lead Package (MF) - 3x3x0.9mm Body [DFN]; Supplier 1: Digi-Key; Supplier Part Number 1: TC1303C-PA0EMF-ND; Mounting Technology: Surface Mount; ComponentLink1Description: Manufacturer URL; ComponentLink1URL: http://www.microchip.com/; ComponentLink2Description: Datasheet; ComponentLink2URL: http://ww1.microchip.com/downloads/en/DeviceDoc/21949b.pdf; ComponentLink3Description: Package Specification; ComponentLink3URL: http://www.microchip.com/stellent/groups/techpub_sg/documents/packagingspec/en012702.pdf
footprint DFN-MF10 (SON, 10-Leads, Body 3x3mm, Pitch 0.5mm, Microchip Recommended)
pins: 1 ~{SHDN2} (in), 2 VIN2 (power), 3 VOUT2 (out), 4 PG (oc), 5 AGND (power), 6 VOUT1 (out), 7 ~{SHDN1} (in), 8 VIN1 (power), 9 LX (out), 10 PGND (power), 11 EP (power)

## TC1303C-PA0EMFTR
designator U?
500mA Synchronous Buck Regulator + 300mA LDO with Power-Good Output, 1.8V, 3.3V, 10-Pin DFN, Industrial Temperature, Tape and Reel; Manufacturer: Microchip; PartNumber: TC1303C-PA0EMFTR; DatasheetVersion: revB, Jul-2005; PackageVersion: revBB, Aug-2009; PackageReference: DFN-MF10; PackageDescription: 10-Lead Plastic Dual Flat, No Lead Package (MF) - 3x3x0.9mm Body [DFN]; Supplier 1: Digi-Key; Supplier Part Number 1: TC1303C-PA0EMFTR-ND; Mounting Technology: Surface Mount; ComponentLink1Description: Manufacturer URL; ComponentLink1URL: http://www.microchip.com/; ComponentLink2Description: Datasheet; ComponentLink2URL: http://ww1.microchip.com/downloads/en/DeviceDoc/21949b.pdf; ComponentLink3Description: Package Specification; ComponentLink3URL: http://www.microchip.com/stellent/groups/techpub_sg/documents/packagingspec/en012702.pdf
footprint DFN-MF10 (SON, 10-Leads, Body 3x3mm, Pitch 0.5mm, Microchip Recommended)
pins: 1 ~{SHDN2} (in), 2 VIN2 (power), 3 VOUT2 (out), 4 PG (oc), 5 AGND (power), 6 VOUT1 (out), 7 ~{SHDN1} (in), 8 VIN1 (power), 9 LX (out), 10 PGND (power), 11 EP (power)

## TC1303C-PI0EMF
designator U?
500mA Synchronous Buck Regulator + 300mA LDO with Power-Good Output, 1.8V, 2.5V, 10-Pin DFN, Industrial Temperature; Manufacturer: Microchip; PartNumber: TC1303C-PI0EMF; DatasheetVersion: revB, Jul-2005; PackageVersion: revBB, Aug-2009; PackageReference: DFN-MF10; PackageDescription: 10-Lead Plastic Dual Flat, No Lead Package (MF) - 3x3x0.9mm Body [DFN]; Supplier 1: Digi-Key; Supplier Part Number 1: TC1303C-PI0EMF-ND; Mounting Technology: Surface Mount; ComponentLink1Description: Manufacturer URL; ComponentLink1URL: http://www.microchip.com/; ComponentLink2Description: Datasheet; ComponentLink2URL: http://ww1.microchip.com/downloads/en/DeviceDoc/21949b.pdf; ComponentLink3Description: Package Specification; ComponentLink3URL: http://www.microchip.com/stellent/groups/techpub_sg/documents/packagingspec/en012702.pdf
footprint DFN-MF10 (SON, 10-Leads, Body 3x3mm, Pitch 0.5mm, Microchip Recommended)
pins: 1 ~{SHDN2} (in), 2 VIN2 (power), 3 VOUT2 (out), 4 PG (oc), 5 AGND (power), 6 VOUT1 (out), 7 ~{SHDN1} (in), 8 VIN1 (power), 9 LX (out), 10 PGND (power), 11 EP (power)

## TC1303C-PI0EMFTR
designator U?
500mA Synchronous Buck Regulator + 300mA LDO with Power-Good Output, 1.8V, 2.5V, 10-Pin DFN, Industrial Temperature, Tape and Reel; Manufacturer: Microchip; PartNumber: TC1303C-PI0EMFTR; DatasheetVersion: revB, Jul-2005; PackageVersion: revBB, Aug-2009; PackageReference: DFN-MF10; PackageDescription: 10-Lead Plastic Dual Flat, No Lead Package (MF) - 3x3x0.9mm Body [DFN]; Supplier 1: Digi-Key; Supplier Part Number 1: TC1303C-PI0EMFTR-ND; Mounting Technology: Surface Mount; ComponentLink1Description: Manufacturer URL; ComponentLink1URL: http://www.microchip.com/; ComponentLink2Description: Datasheet; ComponentLink2URL: http://ww1.microchip.com/downloads/en/DeviceDoc/21949b.pdf; ComponentLink3Description: Package Specification; ComponentLink3URL: http://www.microchip.com/stellent/groups/techpub_sg/documents/packagingspec/en012702.pdf
footprint DFN-MF10 (SON, 10-Leads, Body 3x3mm, Pitch 0.5mm, Microchip Recommended)
pins: 1 ~{SHDN2} (in), 2 VIN2 (power), 3 VOUT2 (out), 4 PG (oc), 5 AGND (power), 6 VOUT1 (out), 7 ~{SHDN1} (in), 8 VIN1 (power), 9 LX (out), 10 PGND (power), 11 EP (power)

## TC1303C-RD1EMF
designator U?
500mA Synchronous Buck Regulator + 300mA LDO with Power-Good Output, 1.6V, 3V, 10-Pin DFN, Industrial Temperature; Manufacturer: Microchip; PartNumber: TC1303C-RD1EMF; DatasheetVersion: revB, Jul-2005; PackageVersion: revBB, Aug-2009; PackageReference: DFN-MF10; PackageDescription: 10-Lead Plastic Dual Flat, No Lead Package (MF) - 3x3x0.9mm Body [DFN]; Supplier 1: Digi-Key; Supplier Part Number 1: TC1303C-RD1EMF-ND; Mounting Technology: Surface Mount; ComponentLink1Description: Manufacturer URL; ComponentLink1URL: http://www.microchip.com/; ComponentLink2Description: Datasheet; ComponentLink2URL: http://ww1.microchip.com/downloads/en/DeviceDoc/21949b.pdf; ComponentLink3Description: Package Specification; ComponentLink3URL: http://www.microchip.com/stellent/groups/techpub_sg/documents/packagingspec/en012702.pdf
footprint DFN-MF10 (SON, 10-Leads, Body 3x3mm, Pitch 0.5mm, Microchip Recommended)
pins: 1 ~{SHDN2} (in), 2 VIN2 (power), 3 VOUT2 (out), 4 PG (oc), 5 AGND (power), 6 VOUT1 (out), 7 ~{SHDN1} (in), 8 VIN1 (power), 9 LX (out), 10 PGND (power), 11 EP (power)

## TC1303C-RD1EMFTR
designator U?
500mA Synchronous Buck Regulator + 300mA LDO with Power-Good Output, 1.6V, 3V, 10-Pin DFN, Industrial Temperature, Tape and Reel; Manufacturer: Microchip; PartNumber: TC1303C-RD1EMFTR; DatasheetVersion: revB, Jul-2005; PackageVersion: revBB, Aug-2009; PackageReference: DFN-MF10; PackageDescription: 10-Lead Plastic Dual Flat, No Lead Package (MF) - 3x3x0.9mm Body [DFN]; Supplier 1: Digi-Key; Supplier Part Number 1: TC1303C-RD1EMFTR-ND; Mounting Technology: Surface Mount; ComponentLink1Description: Manufacturer URL; ComponentLink1URL: http://www.microchip.com/; ComponentLink2Description: Datasheet; ComponentLink2URL: http://ww1.microchip.com/downloads/en/DeviceDoc/21949b.pdf; ComponentLink3Description: Package Specification; ComponentLink3URL: http://www.microchip.com/stellent/groups/techpub_sg/documents/packagingspec/en012702.pdf
footprint DFN-MF10 (SON, 10-Leads, Body 3x3mm, Pitch 0.5mm, Microchip Recommended)
pins: 1 ~{SHDN2} (in), 2 VIN2 (power), 3 VOUT2 (out), 4 PG (oc), 5 AGND (power), 6 VOUT1 (out), 7 ~{SHDN1} (in), 8 VIN1 (power), 9 LX (out), 10 PGND (power), 11 EP (power)

## TC1303C-VP0EMF
designator U?
500mA Synchronous Buck Regulator + 300mA LDO with Power-Good Output, 1.2V, 1.8V, 10-Pin DFN, Industrial Temperature; Manufacturer: Microchip; PartNumber: TC1303C-VP0EMF; DatasheetVersion: revB, Jul-2005; PackageVersion: revBB, Aug-2009; PackageReference: DFN-MF10; PackageDescription: 10-Lead Plastic Dual Flat, No Lead Package (MF) - 3x3x0.9mm Body [DFN]; Supplier 1: Digi-Key; Supplier Part Number 1: TC1303C-VP0EMF-ND; Mounting Technology: Surface Mount; ComponentLink1Description: Manufacturer URL; ComponentLink1URL: http://www.microchip.com/; ComponentLink2Description: Datasheet; ComponentLink2URL: http://ww1.microchip.com/downloads/en/DeviceDoc/21949b.pdf; ComponentLink3Description: Package Specification; ComponentLink3URL: http://www.microchip.com/stellent/groups/techpub_sg/documents/packagingspec/en012702.pdf
footprint DFN-MF10 (SON, 10-Leads, Body 3x3mm, Pitch 0.5mm, Microchip Recommended)
pins: 1 ~{SHDN2} (in), 2 VIN2 (power), 3 VOUT2 (out), 4 PG (oc), 5 AGND (power), 6 VOUT1 (out), 7 ~{SHDN1} (in), 8 VIN1 (power), 9 LX (out), 10 PGND (power), 11 EP (power)

## TC1303C-VP0EMFTR
designator U?
500mA Synchronous Buck Regulator + 300mA LDO with Power-Good Output, 1.2V, 1.8V, 10-Pin DFN, Industrial Temperature, Tape and Reel; Manufacturer: Microchip; PartNumber: TC1303C-VP0EMFTR; DatasheetVersion: revB, Jul-2005; PackageVersion: revBB, Aug-2009; PackageReference: DFN-MF10; PackageDescription: 10-Lead Plastic Dual Flat, No Lead Package (MF) - 3x3x0.9mm Body [DFN]; Supplier 1: Digi-Key; Supplier Part Number 1: TC1303C-VP0EMFTR-ND; Mounting Technology: Surface Mount; ComponentLink1Description: Manufacturer URL; ComponentLink1URL: http://www.microchip.com/; ComponentLink2Description: Datasheet; ComponentLink2URL: http://ww1.microchip.com/downloads/en/DeviceDoc/21949b.pdf; ComponentLink3Description: Package Specification; ComponentLink3URL: http://www.microchip.com/stellent/groups/techpub_sg/documents/packagingspec/en012702.pdf
footprint DFN-MF10 (SON, 10-Leads, Body 3x3mm, Pitch 0.5mm, Microchip Recommended)
pins: 1 ~{SHDN2} (in), 2 VIN2 (power), 3 VOUT2 (out), 4 PG (oc), 5 AGND (power), 6 VOUT1 (out), 7 ~{SHDN1} (in), 8 VIN1 (power), 9 LX (out), 10 PGND (power), 11 EP (power)

## TC1303C-VP0EUN
designator U?
500mA Synchronous Buck Regulator + 300mA LDO with Power-Good Output, 1.2V, 1.8V, 10-Pin MSOP, Industrial Temperature; Manufacturer: Microchip; PartNumber: TC1303C-VP0EUN; DatasheetVersion: revB, Jul-2005; PackageVersion: revBB, Aug-2009; PackageReference: MSOP-UN10; PackageDescription: 10-Lead Plastic Micro Small Outline Package (UN) [MSOP]; Supplier 1: Digi-Key; Supplier Part Number 1: TC1303C-VP0EUN-ND; Mounting Technology: Surface Mount; ComponentLink1Description: Manufacturer URL; ComponentLink1URL: http://www.microchip.com/; ComponentLink2Description: Datasheet; ComponentLink2URL: http://ww1.microchip.com/downloads/en/DeviceDoc/21949b.pdf; ComponentLink3Description: Package Specification; ComponentLink3URL: http://www.microchip.com/stellent/groups/techpub_sg/documents/packagingspec/en012702.pdf
footprint MSOP-UN10_N (TSSOP, 10-Leads, Body 3x3mm, Pitch 0.5mm, IPC Medium Density)
footprint MSOP-UN10_L (TSSOP, 10-Leads, Body 3x3mm, Pitch 0.5mm, IPC High Density)
footprint MSOP-UN10_M (TSSOP, 10-Leads, Body 3x3mm, Pitch 0.5mm, IPC Low Density)
pins: 1 ~{SHDN2} (in), 2 VIN2 (power), 3 VOUT2 (out), 4 PG (oc), 5 AGND (power), 6 VOUT1 (out), 7 ~{SHDN1} (in), 8 VIN1 (power), 9 LX (out), 10 PGND (power)

## TC1303C-VP0EUNTR
designator U?
500mA Synchronous Buck Regulator + 300mA LDO with Power-Good Output, 1.2V, 1.8V, 10-Pin MSOP, Industrial Temperature, Tape and Reel; Manufacturer: Microchip; PartNumber: TC1303C-VP0EUNTR; DatasheetVersion: revB, Jul-2005; PackageVersion: revBB, Aug-2009; PackageReference: MSOP-UN10; PackageDescription: 10-Lead Plastic Micro Small Outline Package (UN) [MSOP]; Supplier 1: Digi-Key; Supplier Part Number 1: TC1303C-VP0EUNTR-ND; Mounting Technology: Surface Mount; ComponentLink1Description: Manufacturer URL; ComponentLink1URL: http://www.microchip.com/; ComponentLink2Description: Datasheet; ComponentLink2URL: http://ww1.microchip.com/downloads/en/DeviceDoc/21949b.pdf; ComponentLink3Description: Package Specification; ComponentLink3URL: http://www.microchip.com/stellent/groups/techpub_sg/documents/packagingspec/en012702.pdf
footprint MSOP-UN10_N (TSSOP, 10-Leads, Body 3x3mm, Pitch 0.5mm, IPC Medium Density)
footprint MSOP-UN10_L (TSSOP, 10-Leads, Body 3x3mm, Pitch 0.5mm, IPC High Density)
footprint MSOP-UN10_M (TSSOP, 10-Leads, Body 3x3mm, Pitch 0.5mm, IPC Low Density)
pins: 1 ~{SHDN2} (in), 2 VIN2 (power), 3 VOUT2 (out), 4 PG (oc), 5 AGND (power), 6 VOUT1 (out), 7 ~{SHDN1} (in), 8 VIN1 (power), 9 LX (out), 10 PGND (power)

## TC1303C-ZA0EMF
designator U?
500mA Synchronous Buck Regulator + 300mA LDO with Power-Good Output, Adjustable, 3.3V, 10-Pin DFN, Industrial Temperature; Manufacturer: Microchip; PartNumber: TC1303C-ZA0EMF; DatasheetVersion: revB, Jul-2005; PackageVersion: revBB, Aug-2009; PackageReference: DFN-MF10; PackageDescription: 10-Lead Plastic Dual Flat, No Lead Package (MF) - 3x3x0.9mm Body [DFN]; Supplier 1: Digi-Key; Supplier Part Number 1: TC1303C-ZA0EMF-ND; Mounting Technology: Surface Mount; ComponentLink1Description: Manufacturer URL; ComponentLink1URL: http://www.microchip.com/; ComponentLink2Description: Datasheet; ComponentLink2URL: http://ww1.microchip.com/downloads/en/DeviceDoc/21949b.pdf; ComponentLink3Description: Package Specification; ComponentLink3URL: http://www.microchip.com/stellent/groups/techpub_sg/documents/packagingspec/en012702.pdf
footprint DFN-MF10 (SON, 10-Leads, Body 3x3mm, Pitch 0.5mm, Microchip Recommended)
pins: 1 ~{SHDN2} (in), 2 VIN2 (power), 3 VOUT2 (out), 4 PG (oc), 5 AGND (power), 6 VFB (in), 7 ~{SHDN1} (in), 8 VIN1 (power), 9 LX (out), 10 PGND (power), 11 EP (power)

## TC1303C-ZA0EMFTR
designator U?
500mA Synchronous Buck Regulator + 300mA LDO with Power-Good Output, Adjustable, 3.3V, 10-Pin DFN, Industrial Temperature, Tape and Reel; Manufacturer: Microchip; PartNumber: TC1303C-ZA0EMFTR; DatasheetVersion: revB, Jul-2005; PackageVersion: revBB, Aug-2009; PackageReference: DFN-MF10; PackageDescription: 10-Lead Plastic Dual Flat, No Lead Package (MF) - 3x3x0.9mm Body [DFN]; Supplier 1: Digi-Key; Supplier Part Number 1: TC1303C-ZA0EMFTR-ND; Mounting Technology: Surface Mount; ComponentLink1Description: Manufacturer URL; ComponentLink1URL: http://www.microchip.com/; ComponentLink2Description: Datasheet; ComponentLink2URL: http://ww1.microchip.com/downloads/en/DeviceDoc/21949b.pdf; ComponentLink3Description: Package Specification; ComponentLink3URL: http://www.microchip.com/stellent/groups/techpub_sg/documents/packagingspec/en012702.pdf
footprint DFN-MF10 (SON, 10-Leads, Body 3x3mm, Pitch 0.5mm, Microchip Recommended)
pins: 1 ~{SHDN2} (in), 2 VIN2 (power), 3 VOUT2 (out), 4 PG (oc), 5 AGND (power), 6 VFB (in), 7 ~{SHDN1} (in), 8 VIN1 (power), 9 LX (out), 10 PGND (power), 11 EP (power)

## TC1303C-ZA0EUN
designator U?
500mA Synchronous Buck Regulator + 300mA LDO with Power-Good Output, Adjustable, 3.3V, 10-Pin MSOP, Industrial Temperature; Manufacturer: Microchip; PartNumber: TC1303C-ZA0EUN; DatasheetVersion: revB, Jul-2005; PackageVersion: revBB, Aug-2009; PackageReference: MSOP-UN10; PackageDescription: 10-Lead Plastic Micro Small Outline Package (UN) [MSOP]; Supplier 1: Digi-Key; Supplier Part Number 1: TC1303C-ZA0EUN-ND; Mounting Technology: Surface Mount; ComponentLink1Description: Manufacturer URL; ComponentLink1URL: http://www.microchip.com/; ComponentLink2Description: Datasheet; ComponentLink2URL: http://ww1.microchip.com/downloads/en/DeviceDoc/21949b.pdf; ComponentLink3Description: Package Specification; ComponentLink3URL: http://www.microchip.com/stellent/groups/techpub_sg/documents/packagingspec/en012702.pdf
footprint MSOP-UN10_N (TSSOP, 10-Leads, Body 3x3mm, Pitch 0.5mm, IPC Medium Density)
footprint MSOP-UN10_L (TSSOP, 10-Leads, Body 3x3mm, Pitch 0.5mm, IPC High Density)
footprint MSOP-UN10_M (TSSOP, 10-Leads, Body 3x3mm, Pitch 0.5mm, IPC Low Density)
pins: 1 ~{SHDN2} (in), 2 VIN2 (power), 3 VOUT2 (out), 4 PG (oc), 5 AGND (power), 6 VFB (in), 7 ~{SHDN1} (in), 8 VIN1 (power), 9 LX (out), 10 PGND (power)

## TC1303C-ZA0EUNTR
designator U?
500mA Synchronous Buck Regulator + 300mA LDO with Power-Good Output, Adjustable, 3.3V, 10-Pin MSOP, Industrial Temperature, Tape and Reel; Manufacturer: Microchip; PartNumber: TC1303C-ZA0EUNTR; DatasheetVersion: revB, Jul-2005; PackageVersion: revBB, Aug-2009; PackageReference: MSOP-UN10; PackageDescription: 10-Lead Plastic Micro Small Outline Package (UN) [MSOP]; Supplier 1: Digi-Key; Supplier Part Number 1: TC1303C-ZA0EUNTR-ND; Mounting Technology: Surface Mount; ComponentLink1Description: Manufacturer URL; ComponentLink1URL: http://www.microchip.com/; ComponentLink2Description: Datasheet; ComponentLink2URL: http://ww1.microchip.com/downloads/en/DeviceDoc/21949b.pdf; ComponentLink3Description: Package Specification; ComponentLink3URL: http://www.microchip.com/stellent/groups/techpub_sg/documents/packagingspec/en012702.pdf
footprint MSOP-UN10_N (TSSOP, 10-Leads, Body 3x3mm, Pitch 0.5mm, IPC Medium Density)
footprint MSOP-UN10_L (TSSOP, 10-Leads, Body 3x3mm, Pitch 0.5mm, IPC High Density)
footprint MSOP-UN10_M (TSSOP, 10-Leads, Body 3x3mm, Pitch 0.5mm, IPC Low Density)
pins: 1 ~{SHDN2} (in), 2 VIN2 (power), 3 VOUT2 (out), 4 PG (oc), 5 AGND (power), 6 VFB (in), 7 ~{SHDN1} (in), 8 VIN1 (power), 9 LX (out), 10 PGND (power)

## TC1303C-ZI0EMF
designator U?
500mA Synchronous Buck Regulator + 300mA LDO with Power-Good Output, Adjustable, 2.5V, 10-Pin DFN, Industrial Temperature; Manufacturer: Microchip; PartNumber: TC1303C-ZI0EMF; DatasheetVersion: revB, Jul-2005; PackageVersion: revBB, Aug-2009; PackageReference: DFN-MF10; PackageDescription: 10-Lead Plastic Dual Flat, No Lead Package (MF) - 3x3x0.9mm Body [DFN]; Supplier 1: Digi-Key; Supplier Part Number 1: TC1303C-ZI0EMF-ND; Mounting Technology: Surface Mount; ComponentLink1Description: Manufacturer URL; ComponentLink1URL: http://www.microchip.com/; ComponentLink2Description: Datasheet; ComponentLink2URL: http://ww1.microchip.com/downloads/en/DeviceDoc/21949b.pdf; ComponentLink3Description: Package Specification; ComponentLink3URL: http://www.microchip.com/stellent/groups/techpub_sg/documents/packagingspec/en012702.pdf
footprint DFN-MF10 (SON, 10-Leads, Body 3x3mm, Pitch 0.5mm, Microchip Recommended)
pins: 1 ~{SHDN2} (in), 2 VIN2 (power), 3 VOUT2 (out), 4 PG (oc), 5 AGND (power), 6 VFB (in), 7 ~{SHDN1} (in), 8 VIN1 (power), 9 LX (out), 10 PGND (power), 11 EP (power)

## TC1303C-ZI0EMFTR
designator U?
500mA Synchronous Buck Regulator + 300mA LDO with Power-Good Output, Adjustable, 2.5V, 10-Pin DFN, Industrial Temperature, Tape and Reel; Manufacturer: Microchip; PartNumber: TC1303C-ZI0EMFTR; DatasheetVersion: revB, Jul-2005; PackageVersion: revBB, Aug-2009; PackageReference: DFN-MF10; PackageDescription: 10-Lead Plastic Dual Flat, No Lead Package (MF) - 3x3x0.9mm Body [DFN]; Supplier 1: Digi-Key; Supplier Part Number 1: TC1303C-ZI0EMFTR-ND; Mounting Technology: Surface Mount; ComponentLink1Description: Manufacturer URL; ComponentLink1URL: http://www.microchip.com/; ComponentLink2Description: Datasheet; ComponentLink2URL: http://ww1.microchip.com/downloads/en/DeviceDoc/21949b.pdf; ComponentLink3Description: Package Specification; ComponentLink3URL: http://www.microchip.com/stellent/groups/techpub_sg/documents/packagingspec/en012702.pdf
footprint DFN-MF10 (SON, 10-Leads, Body 3x3mm, Pitch 0.5mm, Microchip Recommended)
pins: 1 ~{SHDN2} (in), 2 VIN2 (power), 3 VOUT2 (out), 4 PG (oc), 5 AGND (power), 6 VFB (in), 7 ~{SHDN1} (in), 8 VIN1 (power), 9 LX (out), 10 PGND (power), 11 EP (power)

## TC1303C-ZI0EUN
designator U?
500mA Synchronous Buck Regulator + 300mA LDO with Power-Good Output, Adjustable, 2.5V, 10-Pin MSOP, Industrial Temperature; Manufacturer: Microchip; PartNumber: TC1303C-ZI0EUN; DatasheetVersion: revB, Jul-2005; PackageVersion: revBB, Aug-2009; PackageReference: MSOP-UN10; PackageDescription: 10-Lead Plastic Micro Small Outline Package (UN) [MSOP]; Supplier 1: Digi-Key; Supplier Part Number 1: TC1303C-ZI0EUN-ND; Mounting Technology: Surface Mount; ComponentLink1Description: Manufacturer URL; ComponentLink1URL: http://www.microchip.com/; ComponentLink2Description: Datasheet; ComponentLink2URL: http://ww1.microchip.com/downloads/en/DeviceDoc/21949b.pdf; ComponentLink3Description: Package Specification; ComponentLink3URL: http://www.microchip.com/stellent/groups/techpub_sg/documents/packagingspec/en012702.pdf
footprint MSOP-UN10_N (TSSOP, 10-Leads, Body 3x3mm, Pitch 0.5mm, IPC Medium Density)
footprint MSOP-UN10_L (TSSOP, 10-Leads, Body 3x3mm, Pitch 0.5mm, IPC High Density)
footprint MSOP-UN10_M (TSSOP, 10-Leads, Body 3x3mm, Pitch 0.5mm, IPC Low Density)
pins: 1 ~{SHDN2} (in), 2 VIN2 (power), 3 VOUT2 (out), 4 PG (oc), 5 AGND (power), 6 VFB (in), 7 ~{SHDN1} (in), 8 VIN1 (power), 9 LX (out), 10 PGND (power)